# EAGLE library part AD9958 (library NMR-relaxometry)
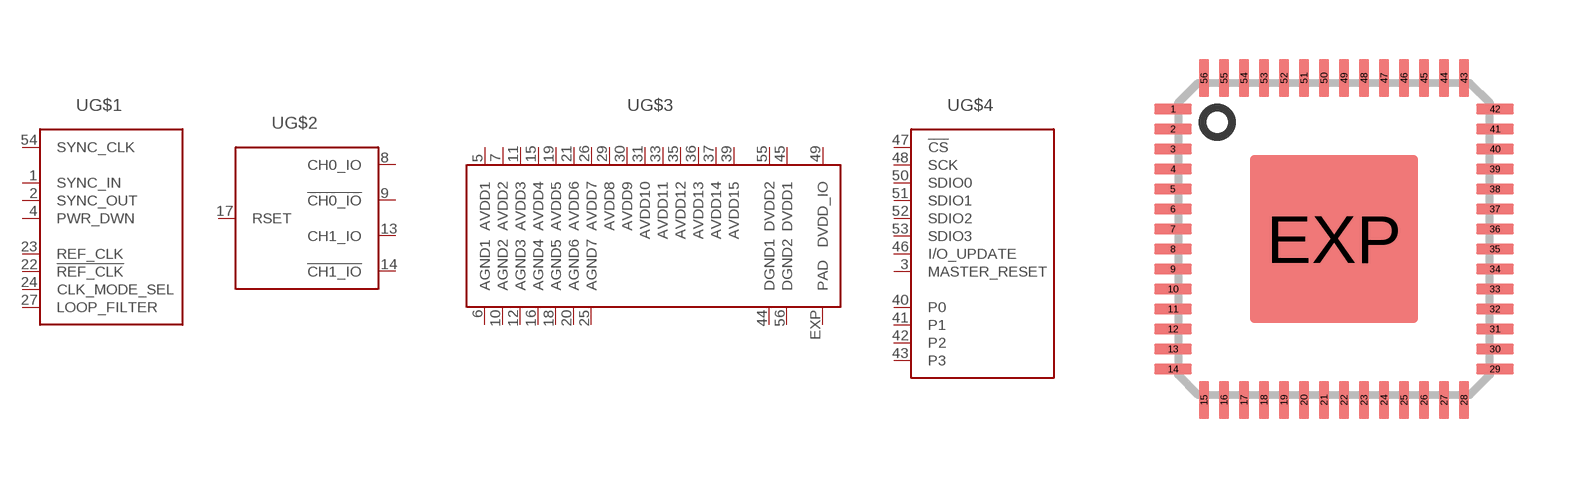
[diagram p1: symbol with the pads of LFCSP-56; footprint LFCSP-56]

Designator prefix -; gates G$1=AD9958_CLK G$2=AD9958_OUT G$3=AD9958_PWR G$4=AD9958_SER

## AD9958  [LFCSP-56]
1  G$1:SYNC_IN  in
2  G$1:SYNC_OUT  out
3  G$4:MASTER_RESET  in
4  G$1:PWR_DWN  in
5  G$3:AVDD1  pwr
6  G$3:AGND1  pwr
7  G$3:AVDD2  pwr
8  G$2:CH0_IO  out
9  G$2:!CH0_IO  out
10  G$3:AGND2  pwr
11  G$3:AVDD3  pwr
12  G$3:AGND3  pwr
13  G$2:CH1_IO  out
14  G$2:!CH1_IO  out
15  G$3:AVDD4  pwr
16  G$3:AGND4  pwr
17  G$2:RSET  pas
18  G$3:AGND5  pwr
19  G$3:AVDD5  pwr
20  G$3:AGND6  pwr
21  G$3:AVDD6  pwr
22  G$1:!REF_CLK  in
23  G$1:REF_CLK  in
24  G$1:CLK_MODE_SEL  in
25  G$3:AGND7  pwr
26  G$3:AVDD7  pwr
27  G$1:LOOP_FILTER  pas
29  G$3:AVDD8  pwr
30  G$3:AVDD9  pwr
31  G$3:AVDD10  pwr
33  G$3:AVDD11  pwr
35  G$3:AVDD12  pwr
36  G$3:AVDD13  pwr
37  G$3:AVDD14  pwr
39  G$3:AVDD15  pwr
40  G$4:P0  in
41  G$4:P1  in
42  G$4:P2  in
43  G$4:P3  in
44  G$3:DGND1  pwr
45  G$3:DVDD1  pwr
46  G$4:I/O_UPDATE  in
47  G$4:!CS  in
48  G$4:SCK  in
49  G$3:DVDD_IO  pwr
50  G$4:SDIO0
51  G$4:SDIO1
52  G$4:SDIO2
53  G$4:SDIO3
54  G$1:SYNC_CLK  out
55  G$3:DVDD2  pwr
56  G$3:DGND2  pwr
EXP  G$3:PAD  pwr

## Footprint LFCSP-56 (pad centres in mm)
smd 0.95 x 0.254: 1 -4.025,3.25; 2 -4.025,2.75; 3 -4.025,2.25; 4 -4.025,1.75; 5 -4.025,1.25; 6 -4.025,0.75; 7 -4.025,0.25; 8 -4.025,-0.25; 9 -4.025,-0.75; 10 -4.025,-1.25; 11 -4.025,-1.75; 12 -4.025,-2.25; 13 -4.025,-2.75; 14 -4.025,-3.25; 29 4.025,-3.25; 30 4.025,-2.75; 31 4.025,-2.25; 32 4.025,-1.75; 33 4.025,-1.25; 34 4.025,-0.75; 35 4.025,-0.25; 36 4.025,0.25; 37 4.025,0.75; 38 4.025,1.25; 39 4.025,1.75; 40 4.025,2.25; 41 4.025,2.75; 42 4.025,3.25
smd 0.254 x 0.95: 15 -3.25,-4.025; 16 -2.75,-4.025; 17 -2.25,-4.025; 18 -1.75,-4.025; 19 -1.25,-4.025; 20 -0.75,-4.025; 21 -0.25,-4.025; 22 0.25,-4.025; 23 0.75,-4.025; 24 1.25,-4.025; 25 1.75,-4.025; 26 2.25,-4.025; 27 2.75,-4.025; 28 3.25,-4.025; 43 3.25,4.025; 44 2.75,4.025; 45 2.25,4.025; 46 1.75,4.025; 47 1.25,4.025; 48 0.75,4.025; 49 0.25,4.025; 50 -0.25,4.025; 51 -0.75,4.025; 52 -1.25,4.025; 53 -1.75,4.025; 54 -2.25,4.025; 55 -2.75,4.025; 56 -3.25,4.025
smd 4.2 x 4.2: EXP 0,0